# Altium schematic symbol library Dart_Controller_Schlib.SchLib: 218 symbols (part 2 of 2)
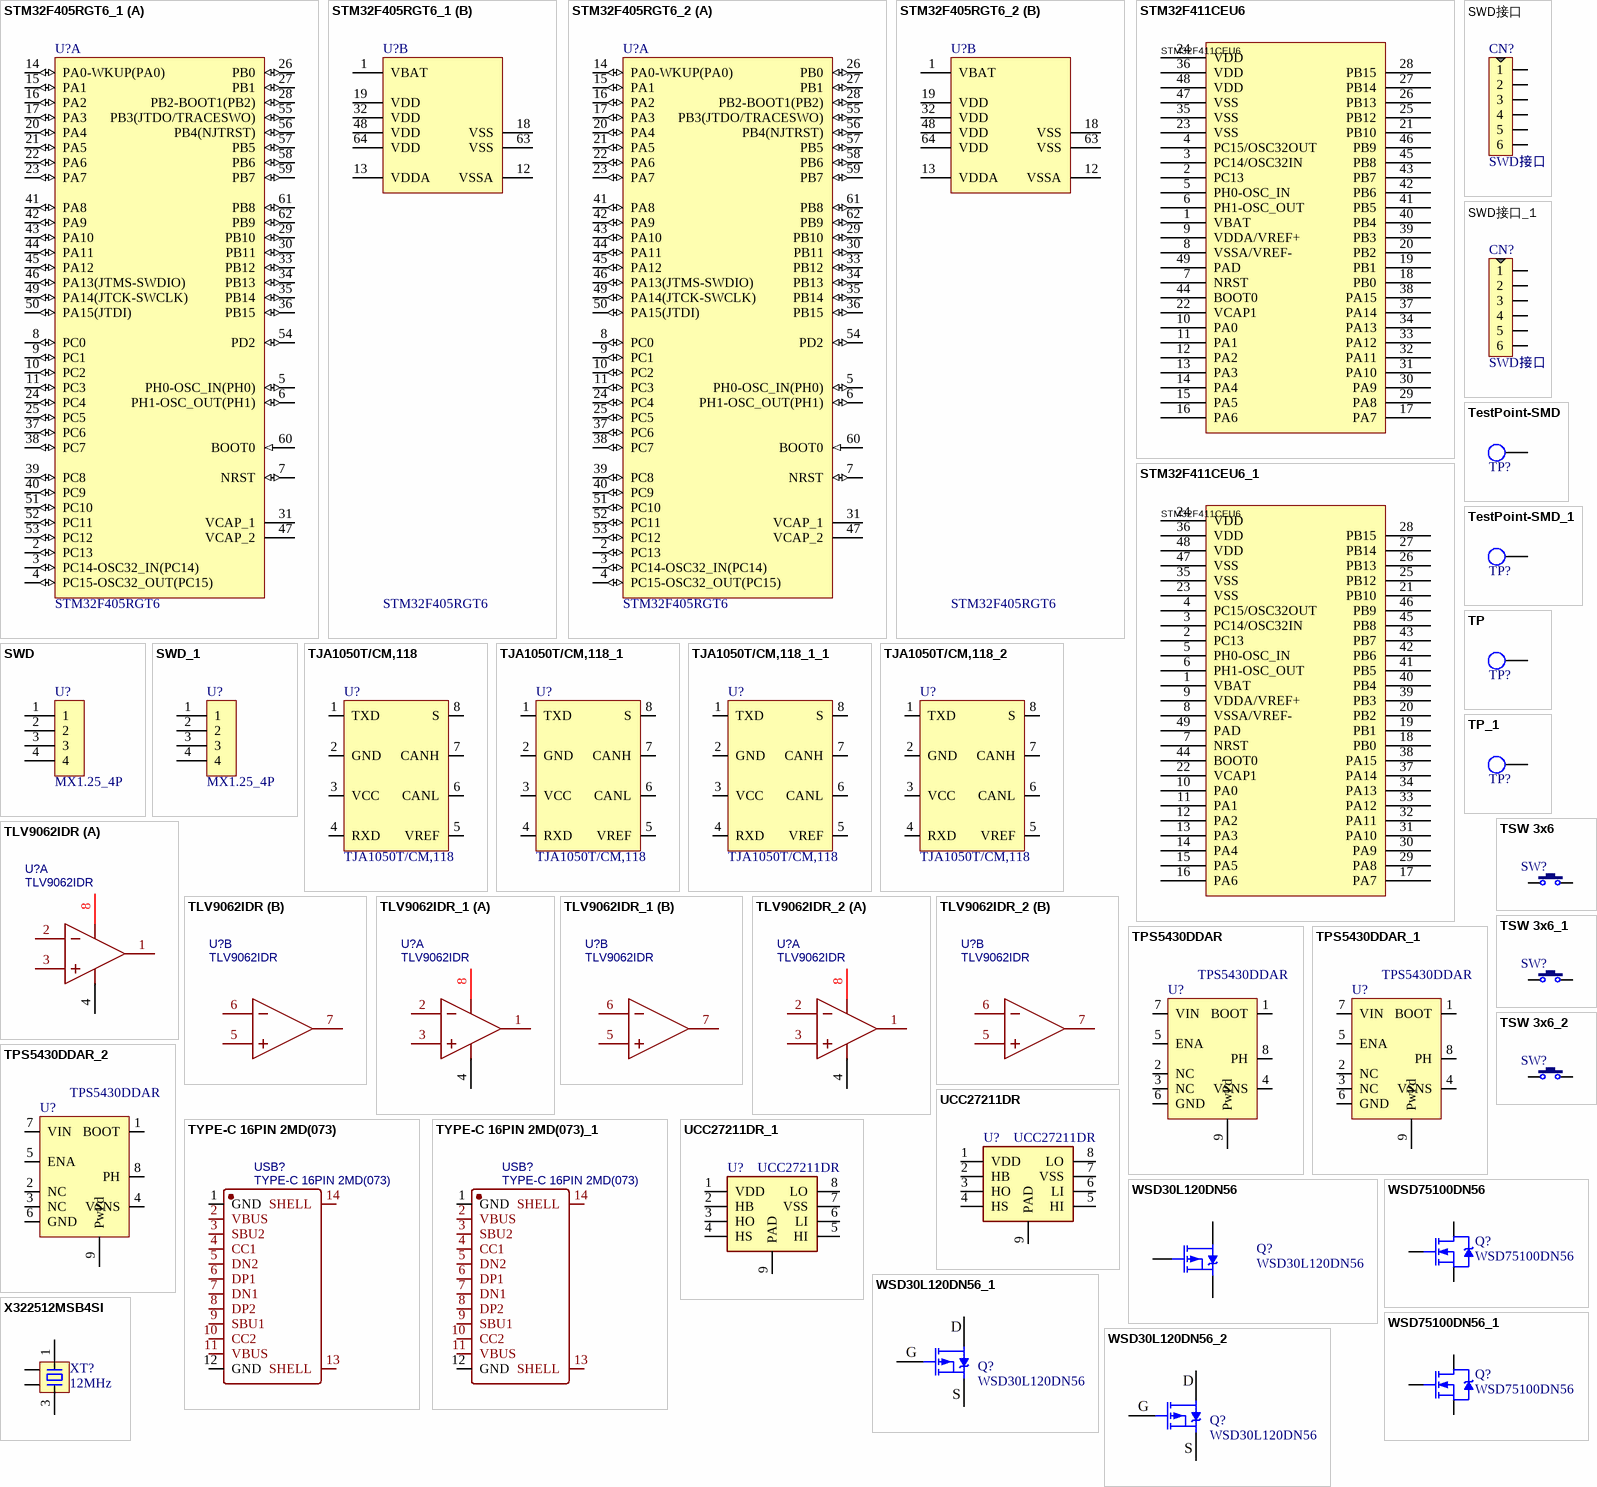
[diagram p6: symbols STM32F405RGT6_1 to X322512MSB4SI]

## STM32F405RGT6_2
designator U?, comment STM32F405RGT6
ARM Cortex-M4 32-bit MCU+FPU, 210 DMIPS, 1024 kB Flash, 192 kB Internal RAM, 51 I/Os, 64-pin LQFP, -40 to 85 degC, Tray; Manufacturer: STMicroelectronics; D/A Converter: 2x12-bit; FLASH Size (Prog) (kB): 1024; I/Os (High Current): 51; Internal RAM Size (kB): 192; Operating Frequency(F) (Processor speed) (MHz): 168; Supply Voltage(Vcc) max (V): 3.6; Supply Voltage(Vcc) min (V): 1.8; DatasheetVersion: Rev. 4; PackageVersion: Rev. 4, 06/2013; PackageReference: LQFP64; PackageDescription: 64-Pin Low Profile Quad Flat Package, 10 x 10 mm Body, 0.5 mm Pitch; Supplier 1: Digi-Key; Supplier Part Number 1: 497-11767-ND; Supplier 2: Farnell; Supplier Part Number 2: 2064363; Supplier 3: Newark; Supplier Part Number 3: 73T2329; Supplier 4: Mouser; Supplier Part Number 4: 511-STM32F405RGT6; Core: ARM Cortex-M4; Packing: Tray; Mounting Technology: Surface Mount; PartNumber: STM32F405RGT6; ComponentLink1Description: Manufacturer URL; ComponentLink1URL: http://www.st.com/web/en/home.html; ComponentLink2Description: Datasheet; ComponentLink2URL: http://www.st.com/st-web-ui/static/active/en/resource/technical/document/datasheet/DM00037051.pdf; ComponentLink3Description: Package Specification; ComponentLink3URL: http://www.st.com/st-web-ui/static/active/en/resource/technical/document/datasheet/DM00037051.pdf
footprint LQFP64 10x10_N (64脚，体宽10x10mm，脚距0.5mm)
part A pins: 2 PC13 (io) "PC13/EVENTOUT/RTC_OUT,RTC_TAMP1,RTC_TS", 3 PC14-OSC32_IN(PC14) (io) "PC14-OSC32_IN(PC14)/EVENTOUT/OSC32_IN", 4 PC15-OSC32_OUT(PC15) (io) "PC15-OSC32_OUT(PC15)/EVENTOUT/OSC32_OUT", 5 PH0-OSC_IN(PH0) (io) "PH0-OSC_IN(PH0)/EVENTOUT/OSC_IN", 6 PH1-OSC_OUT(PH1) (io) "PH1-OSC_OUT(PH1)/EVENTOUT/OSC_OUT", 7 NRST (io), 8 PC0 (io) "PC0/OTG_HS_ULPI_STP/EVENTOUT/ADC123_IN10", 9 PC1 (io) "PC1/ETH_MDC/EVENTOUT/ADC123_IN11", 10 PC2 (io) "PC2/SPI2_MISO/OTG_HS_ULPI_DIR/ETH_MII_TXD2/I2S2ext_SD/EVENTOUT/ADC123_IN12", 11 PC3 (io) "PC3/SPI2_MOSI/I2S2_SD/OTG_HS_ULPI_NXT/ETH_MII_TX_CLK/EVENTOUT/ADC123_IN13", 14 PA0-WKUP(PA0) (io) "PA0-WKUP(PA0)/USART2_CTS/UART4_TX/ETH_MII_CRS/TIM2_CH1_ETR/TIM5_CH1/TIM8_ETR/EVENTOUT/ADC123_IN0/WKUP", 15 PA1 (io) "PA1/USART2_RTS/UART4_RX/ETH_RMII_REF_CLK/ETH_MII_RX_CLK/TIM5_CH2/TIM2_CH2/EVENTOUT/ADC123_IN1", 16 PA2 (io) "PA2/USART2_TX/TIM5_CH3/TIM9_CH1/TIM2_CH3/ETH_MDIO/EVENTOUT/ADC123_IN2", 17 PA3 (io) "PA3/USART2_RX/TIM5_CH4/TIM9_CH2/TIM2_CH4/OTG_HS_ULPI_D0/ETH_MII_COL/EVENTOUT/ADC123_IN3", 20 PA4 (io) "PA4/SPI1_NSS/SPI3_NSS/USART2_CK/DCMI_HSYNC/OTG_HS_SOF/I2S3_WS/EVENTOUT/ADC12_IN4/DAC_OUT1", 21 PA5 (io) "PA5/SPI1_SCK/OTG_HS_ULPI_CK/TIM2_CH1_ETR/TIM8_CH1N/EVENTOUT/ADC12_IN5/DAC_OUT2", 22 PA6 (io) "PA6/SPI1_MISO/TIM8_BKIN/TIM13_CH1/DCMI_PIXCLK/TIM3_CH1/TIM1_BKIN/EVENTOUT/ADC12_IN6", 23 PA7 (io) "PA7/SPI1_MOSI/TIM8_CH1N/TIM14_CH1/TIM3_CH2/ETH_MII_RX_DV/TIM1_CH1N/ETH_RMII_CRS_DV/EVENTOUT/ADC12_IN7", 24 PC4 (io) "PC4/ETH_RMII_RX_D0/ETH_MII_RX_D0/EVENTOUT/ADC12_IN14", 25 PC5 (io) "PC5/ETH_RMII_RX_D1/ETH_MII_RX_D1/EVENTOUT/ADC12_IN15", 26 PB0 (io) "PB0/TIM3_CH3/TIM8_CH2N/OTG_HS_ULPI_D1/ETH_MII_RXD2/TIM1_CH2N/EVENTOUT/ADC12_IN8", 27 PB1 (io) "PB1/TIM3_CH4/TIM8_CH3N/OTG_HS_ULPI_D2/ETH_MII_RXD3/TIM1_CH3N/EVENTOUT/ADC12_IN9", 28 PB2-BOOT1(PB2) (io) "PB2-BOOT1(PB2)/EVENTOUT", 29 PB10 (io) "PB10/SPI2_SCK/I2S2_CK/I2C2_SCL/USART3_TX/OTG_HS_ULPI_D3/ETH_MII_RX_ER/TIM2_CH3/EVENTOUT", 30 PB11 (io) "PB11/I2C2_SDA/USART3_RX/OTG_HS_ULPI_D4/ETH_RMII_TX_EN/ETH_MII_TX_EN/TIM2_CH4/EVENTOUT", 31 VCAP_1 (power), 33 PB12 (io) "PB12/SPI2_NSS/I2S2_WS/I2C2_SMBA/USART3_CK/TIM1_BKIN/CAN2_RX/OTG_HS_ULPI_D5/ETH_RMII_TXD0/ETH_MII_TXD0/OTG_HS_ID/EVENTOUT", 34 PB13 (io) "PB13/SPI2_SCK/I2S2_CK/USART3_CTS/TIM1_CH1N/CAN2_TX/OTG_HS_ULPI_D6/ETH_RMII_TXD1/ETH_MII_TXD1/EVENTOUT/OTG_HS_VBUS", 35 PB14 (io) "PB14/SPI2_MISO/TIM1_CH2N/TIM12_CH1/OTG_HS_DM/USART3_RTS/TIM8_CH2N/I2S2ext_SD/EVENTOUT", 36 PB15 (io) "PB15/SPI2_MOSI/I2S2_SD/TIM1_CH3N/TIM8_CH3N/TIM12_CH2/OTG_HS_DP/EVENTOUT/RTC_REFIN", 37 PC6 (io) "PC6/I2S2_MCK/TIM8_CH1/SDIO_D6/USART6_TX/DCMI_D0/TIM3_CH1/EVENTOUT", 38 PC7 (io) "PC7/I2S3_MCK/TIM8_CH2/SDIO_D7/USART6_RX/DCMI_D1/TIM3_CH2/EVENTOUT", 39 PC8 (io) "PC8/TIM8_CH3/SDIO_D0/TIM3_CH3/USART6_CK/DCMI_D2/EVENTOUT", 40 PC9 (io) "PC9/I2S_CKIN/MCO2/TIM8_CH4/SDIO_D1/I2C3_SDA/DCMI_D3/TIM3_CH4/EVENTOUT", 41 PA8 (io) "PA8/MCO1/USART1_CK/TIM1_CH1/I2C3_SCL/OTG_FS_SOF/EVENTOUT", 42 PA9 (io) "PA9/USART1_TX/TIM1_CH2/I2C3_SMBA/DCMI_D0/EVENTOUT/OTG_FS_VBUS", 43 PA10 (io) "PA10/USART1_RX/TIM1_CH3/OTG_FS_ID/DCMI_D1/EVENTOUT", 44 PA11 (io) "PA11/USART1_CTS/CAN1_RX/TIM1_CH4/OTG_FS_DM/EVENTOUT", 45 PA12 (io) "PA12/USART1_RTS/CAN1_TX/TIM1_ETR/OTG_FS_DP/EVENTOUT", 46 PA13(JTMS-SWDIO) (io) "PA13(JTMS-SWDIO)/JTMS-SWDIO/EVENTOUT", 47 VCAP_2 (power), 49 PA14(JTCK-SWCLK) (io) "PA14(JTCK-SWCLK)/JTCK-SWCLK/EVENTOUT", 50 PA15(JTDI) (io) "PA15(JTDI)/JTDI/SPI3_NSS/I2S3_WS/TIM2_CH1_ETR/SPI1_NSS/EVENTOUT", 51 PC10 (io) "PC10/SPI3_SCK/I2S3_CK/UART4_TX/SDIO_D2/DCMI_D8/USART3_TX/EVENTOUT", 52 PC11 (io) "PC11/UART4_RX/SPI3_MISO/SDIO_D3/DCMI_D4/USART3_RX/I2S3ext_SD/EVENTOUT", 53 PC12 (io) "PC12/UART5_TX/SDIO_CK/DCMI_D9/SPI3_MOSI/I2S3_SD/USART3_CK/EVENTOUT", 54 PD2 (io) "PD2/TIM3_ETR/UART5_RX/SDIO_CMD/DCMI_D11/EVENTOUT", 55 PB3(JTDO/TRACESWO) (io) "PB3(JTDO/TRACESWO)/JTDO/TRACESWO/SPI3_SCK/I2S3_CK/TIM2_CH2/SPI1_SCK/EVENTOUT", 56 PB4(NJTRST) (io) "PB4(NJTRST)/NJTRST/SPI3_MISO/TIM3_CH1/SPI1_MISO/I2S3ext_SD/EVENTOUT", 57 PB5 (io) "PB5/I2C1_SMBA/CAN2_RX/OTG_HS_ULPI_D7/ETH_PPS_OUT/TIM3_CH2/SPI1_MOSI/SPI3_MOSI/DCMI_D10/I2S3_SD/EVENTOUT", 58 PB6 (io) "PB6/I2C1_SCL/TIM4_CH1/CAN2_TX/DCMI_D5/USART1_TX/EVENTOUT", 59 PB7 (io) "PB7/I2C1_SDA/FSMC_NL/DCMI_VSYNC/USART1_RX/TIM4_CH2/EVENTOUT", 60 BOOT0 (in) "BOOT0/VPP", 61 PB8 (io) "PB8/TIM4_CH3/SDIO_D4/TIM10_CH1/DCMI_D6/ETH_MII_TXD3/I2C1_SCL/CAN1_RX/EVENTOUT", 62 PB9 (io) "PB9/SPI2_NSS/I2S2_WS/TIM4_CH4/TIM11_CH1/SDIO_D5/DCMI_D7/I2C1_SDA/CAN1_TX/EVENTOUT"
part B pins: 1 VBAT (power), 12 VSSA (power), 13 VDDA (power), 18 VSS (power), 19 VDD (power), 32 VDD (power), 48 VDD (power), 63 VSS (power), 64 VDD (power)

## STM32F411CEU6
designator STM32F411CEU6  (value not drawn)
Manufacturer: ST(意法半导体); Add into BOM: yes; CPU Core: ARM-M4; Program Storage Size: 512KB; RAM Size: 128KB; GPIO Ports Number: 36; Operating Voltage Range: 1.7V~3.6V; CPU Maximum Speed: 100MHz; Program Memory Type: FLASH; ADC (Bit): 12bit; Universal Serial Bus: 有; Peripheral/Function: DMA；PWM; Symbol: STM32F411CEU6; Device: STM32F411CEU6; LCSC Part Name: 带DSP和FPU的高性能基本型系列ARM Cortex-M4 MCU，具有512 KB Flash、100 MHz CPU和ART加速器; Supplier Part: C60420; Manufacturer Part: STM32F411CEU6; Supplier Footprint: UFQFPN-48(7x7); JLCPCB Part Class: Extended Part; Datasheet: https://atta.szlcsc.com/upload/public/pdf/source/20151026/1457707507170.pdf; Supplier: LCSC; Convert to PCB: yes; Operating Temperature Range: -40℃~+85℃; DAC (Bit): -; PWM (Bit): -; Internal Comparator: -; communication protocol: -; Watchdog: 有; Real-Time Clock: -; Infrared Data Association: 有; Low-Voltage Detect: 有; CCP Capture/Compare: -; Secure Digital Input and Output: 有; Direct Memory Access: 有; Internal Oscillator: 有
footprint STM32F411CEU61
pins: 1 VBAT, 2 PC13, 3 PC14/OSC32IN, 4 PC15/OSC32OUT, 5 PH0-OSC_IN, 6 PH1-OSC_OUT, 7 NRST, 8 VSSA/VREF-, 9 VDDA/VREF+, 10 PA0, 11 PA1, 12 PA2, 13 PA3, 14 PA4, 15 PA5, 16 PA6, 17 PA7, 18 PB0, 19 PB1, 20 PB2, 21 PB10, 22 VCAP1, 23 VSS, 24 VDD, 25 PB12, 26 PB13, 27 PB14, 28 PB15, 29 PA8, 30 PA9, 31 PA10, 32 PA11, 33 PA12, 34 PA13, 35 VSS, 36 VDD, 37 PA14, 38 PA15, 39 PB3, 40 PB4, 41 PB5, 42 PB6, 43 PB7, 44 BOOT0, 45 PB8, 46 PB9, 47 VSS, 48 VDD, 49 PAD

## STM32F411CEU6_1
designator STM32F411CEU6, comment STM32F411CEU6  (value not drawn)
Manufacturer: ST(意法半导体); Add into BOM: yes; CPU Core: ARM-M4; Program Storage Size: 512KB; RAM Size: 128KB; GPIO Ports Number: 36; Operating Voltage Range: 1.7V~3.6V; CPU Maximum Speed: 100MHz; Program Memory Type: FLASH; ADC (Bit): 12bit; Universal Serial Bus: 有; Peripheral/Function: DMA；PWM; Symbol: STM32F411CEU6; Device: STM32F411CEU6; LCSC Part Name: 带DSP和FPU的高性能基本型系列ARM Cortex-M4 MCU，具有512 KB Flash、100 MHz CPU和ART加速器; Supplier Part: C60420; Manufacturer Part: STM32F411CEU6; Supplier Footprint: UFQFPN-48(7x7); JLCPCB Part Class: Extended Part; Datasheet: https://atta.szlcsc.com/upload/public/pdf/source/20151026/1457707507170.pdf; Supplier: LCSC; Convert to PCB: yes; Operating Temperature Range: -40℃~+85℃; DAC (Bit): -; PWM (Bit): -; Internal Comparator: -; communication protocol: -; Watchdog: 有; Real-Time Clock: -; Infrared Data Association: 有; Low-Voltage Detect: 有; CCP Capture/Compare: -; Secure Digital Input and Output: 有; Direct Memory Access: 有; Internal Oscillator: 有
footprint STM32F411CEU61
pins: 1 VBAT, 2 PC13, 3 PC14/OSC32IN, 4 PC15/OSC32OUT, 5 PH0-OSC_IN, 6 PH1-OSC_OUT, 7 NRST, 8 VSSA/VREF-, 9 VDDA/VREF+, 10 PA0, 11 PA1, 12 PA2, 13 PA3, 14 PA4, 15 PA5, 16 PA6, 17 PA7, 18 PB0, 19 PB1, 20 PB2, 21 PB10, 22 VCAP1, 23 VSS, 24 VDD, 25 PB12, 26 PB13, 27 PB14, 28 PB15, 29 PA8, 30 PA9, 31 PA10, 32 PA11, 33 PA12, 34 PA13, 35 VSS, 36 VDD, 37 PA14, 38 PA15, 39 PB3, 40 PB4, 41 PB5, 42 PB6, 43 PB7, 44 BOOT0, 45 PB8, 46 PB9, 47 VSS, 48 VDD, 49 PAD

## SWD
designator U?, comment MX1.25_4P
立式
footprint MX 1.25-LI-4P (长：6.75mm，宽：3.2mm，高：4.2mm        淘宝ID:黄晶宝石)
pins: 1, 2, 3, 4

## SWD_1
designator U?, comment MX1.25_4P
立式
footprint MX 1.25-LI-4P (长：6.75mm，宽：3.2mm，高：4.2mm        淘宝ID:黄晶宝石)
pins: 1, 2, 3, 4

## SWD接口
designator CN?
4P
footprint MX 1.25-WS-4P (长：10.15mm，宽：4.2mm，高：3.4mm)
pins: 1, 2, 3, 4, 5, 6

## SWD接口_1
designator CN?, comment SWD接口
4P
footprint MX 1.25-WS-4P (长：10.15mm，宽：4.2mm，高：3.4mm)
pins: 1, 2, 3, 4, 5, 6

## TestPoint-SMD
designator TP?, comment Testpoint-SMD  (value not drawn)
测试点
footprint TestPoint
footprint HDR2.54-LI-1P (封装库来自淘宝卖家 ID：黄晶宝石)
pins: 1 4

## TestPoint-SMD_1
designator TP?, comment Testpoint-SMD  (value not drawn)
测试点
footprint TestPoint
footprint HDR2.54-LI-1P (封装库来自淘宝卖家 ID：黄晶宝石)
pins: 1 4

## TJA1050T/CM,118
designator U?
CAN芯片
footprint SOP8_N (5*6*1.8mm（长宽高）封装库来自淘宝卖家 ID：黄晶宝石)
pins: 1 TXD, 2 GND, 3 VCC, 4 RXD, 5 VREF, 6 CANL, 7 CANH, 8 S

## TJA1050T/CM,118_1
designator U?, comment TJA1050T/CM,118
CAN芯片
footprint SOP8_N (5*6*1.8mm（长宽高）封装库来自淘宝卖家 ID：黄晶宝石)
pins: 1 TXD, 2 GND, 3 VCC, 4 RXD, 5 VREF, 6 CANL, 7 CANH, 8 S

## TJA1050T/CM,118_1_1
designator U?, comment TJA1050T/CM,118
CAN芯片
footprint SOP8_N (5*6*1.8mm（长宽高）封装库来自淘宝卖家 ID：黄晶宝石)
pins: 1 TXD, 2 GND, 3 VCC, 4 RXD, 5 VREF, 6 CANL, 7 CANH, 8 S

## TJA1050T/CM,118_2
designator U?, comment TJA1050T/CM,118
CAN芯片
footprint SOP8_N (5*6*1.8mm（长宽高）封装库来自淘宝卖家 ID：黄晶宝石)
pins: 1 TXD, 2 GND, 3 VCC, 4 RXD, 5 VREF, 6 CANL, 7 CANH, 8 S

## TLV9062IDR
designator U?
运算放大器; Manufacturer: TI(德州仪器); Manufacturer Part: OPA365AIDBVR; Contributor: LCSC; Supplier: LCSC; Supplier Part: C96626; JLCPCB Part Class: Extended Part; spicePre: U; spiceSymbolName: OPA365AIDBVR
footprint SOP8_N
part A pins: 1 OUT, 2 IN-, 3 IN+, 4 VS-, 8 VS+
part B pins: 5 IN+, 6 IN-, 7 OUT

## TLV9062IDR_1
designator U?, comment TLV9062IDR
运算放大器; Manufacturer: TI(德州仪器); Manufacturer Part: OPA365AIDBVR; Contributor: LCSC; Supplier: LCSC; Supplier Part: C96626; JLCPCB Part Class: Extended Part; spicePre: U; spiceSymbolName: OPA365AIDBVR
footprint SOP8_N
part A pins: 1 OUT, 2 IN-, 3 IN+, 4 VS-, 8 VS+
part B pins: 5 IN+, 6 IN-, 7 OUT

## TLV9062IDR_2
designator U?, comment TLV9062IDR
运算放大器; Manufacturer: TI(德州仪器); Manufacturer Part: OPA365AIDBVR; Contributor: LCSC; Supplier: LCSC; Supplier Part: C96626; JLCPCB Part Class: Extended Part; spicePre: U; spiceSymbolName: OPA365AIDBVR
footprint SOP8_N
part A pins: 1 OUT, 2 IN-, 3 IN+, 4 VS-, 8 VS+
part B pins: 5 IN+, 6 IN-, 7 OUT

## TP
designator TP?  (value not drawn)
测试点
footprint HDR2.54-LI-1P (封装库来自淘宝卖家 ID：黄晶宝石)
pins: 1 4

## TP_1
designator TP?, comment TP  (value not drawn)
测试点
footprint HDR2.54-LI-1P (封装库来自淘宝卖家 ID：黄晶宝石)
pins: 1 4

## TPS5430DDAR
designator U?
降压芯片
footprint ESOP8
pins: 1 BOOT, 2 NC, 3 NC, 4 VSNS, 5 ENA, 6 GND, 7 VIN, 8 PH, 9 PwPd "1"

## TPS5430DDAR_1
designator U?, comment TPS5430DDAR
降压芯片
footprint ESOP8
pins: 1 BOOT, 2 NC, 3 NC, 4 VSNS, 5 ENA, 6 GND, 7 VIN, 8 PH, 9 PwPd "1"

## TPS5430DDAR_2
designator U?, comment TPS5430DDAR
降压芯片
footprint ESOP8
pins: 1 BOOT, 2 NC, 3 NC, 4 VSNS, 5 ENA, 6 GND, 7 VIN, 8 PH, 9 PwPd "1"

## TSW 3x6
designator SW?, comment 3x6x5  (value not drawn)
3x6轻触开关; 版权归属: 封装库来自淘宝 ID：黄晶宝石; BOM名称: 3x6轻触开关; 学习资源: www.ooocke.com
footprint TSW SMD-3*6*2.5 (3*6*2.5mm)
pins: 1, 2

## TSW 3x6_1
designator SW?, comment 3x6x5  (value not drawn)
3x6轻触开关; 版权归属: 封装库来自淘宝 ID：黄晶宝石; BOM名称: 3x6轻触开关; 学习资源: www.ooocke.com
footprint TSW SMD-3*6*2.5 (3*6*2.5mm)
pins: 1, 2

## TSW 3x6_2
designator SW?, comment 3x6x5  (value not drawn)
3x6轻触开关; 版权归属: 封装库来自淘宝 ID：黄晶宝石; BOM名称: 3x6轻触开关; 学习资源: www.ooocke.com
footprint TSW SMD-3*6*2.5 (3*6*2.5mm)
pins: 1, 2

## TYPE-C 16PIN 2MD(073)
designator USB?
type-C; Manufacturer: SHOU HAN(首韩); Contributor: LCSC; Supplier: LCSC; Supplier Part: C2765186; Manufacturer Part: TYPE-C 16PIN 2MD(073); JLCPCB Part Class: Extended Part; spicePre: U; spiceSymbolName: TYPE-C 16PIN 2MD(073)
footprint USB-C-SMD_TYPE-C-6PIN-2MD-073 - duplicate
pins: 1 GND, 2 VBUS, 3 SBU2, 4 CC1, 5 DN2, 6 DP1, 7 DN1, 8 DP2, 9 SBU1, 10 CC2, 11 VBUS, 12 GND, 13 SHELL, 14 SHELL

## TYPE-C 16PIN 2MD(073)_1
designator USB?, comment TYPE-C 16PIN 2MD(073)
type-C; Manufacturer: SHOU HAN(首韩); Contributor: LCSC; Supplier: LCSC; Supplier Part: C2765186; Manufacturer Part: TYPE-C 16PIN 2MD(073); JLCPCB Part Class: Extended Part; spicePre: U; spiceSymbolName: TYPE-C 16PIN 2MD(073)
footprint USB-C-SMD_TYPE-C-6PIN-2MD-073 - duplicate
pins: 1 GND, 2 VBUS, 3 SBU2, 4 CC1, 5 DN2, 6 DP1, 7 DN1, 8 DP2, 9 SBU1, 10 CC2, 11 VBUS, 12 GND, 13 SHELL, 14 SHELL

## UCC27211DR
designator U?
栅极驱动器
footprint ESOP8
pins: 1 VDD, 2 HB, 3 HO, 4 HS, 5 HI, 6 LI, 7 VSS, 8 LO, 9 PAD

## UCC27211DR_1
designator U?, comment UCC27211DR
栅极驱动器
footprint ESOP8
pins: 1 VDD, 2 HB, 3 HO, 4 HS, 5 HI, 6 LI, 7 VSS, 8 LO, 9 PAD

## WSD30L120DN56
designator Q?
P沟道场效应管
footprint POWERVDFN-8_L6.0-W5.0-P1.27-BL
pins: D, G, S

## WSD30L120DN56_1
designator Q?, comment WSD30L120DN56
P沟道场效应管
footprint WSD30L120DN56 (增强PMOS); pin to pad 1>4 2>1+2+3 3>5+6+7+8+9
pins: 1 G, 2 S, 3 D

## WSD30L120DN56_2
designator Q?, comment WSD30L120DN56
P沟道场效应管
footprint WSD30L120DN56 (增强PMOS); pin to pad 1>4 2>1+2+3 3>5+6+7+8+9
pins: 1 G, 2 S, 3 D

## WSD75100DN56
designator Q?
NMOS; Note: Pin 2 is electrically connected to pin 4.; Published: 8-Jun-2000; LatestRevisionDate: 17-Jul-2002; LatestRevisionNote: Re-released for DXP Platform.; DatasheetVersion: PD-9.814; PackageVersion: Feb-1997; PackageReference: TO-220AB; Publisher: Altium Limited; PackageDescription: TO, Thru-Hole, Vertical, Heatsink Mounted; 3 In-Line Leads; Pitch 2.54 mm; ComponentLink1Description: Manufacturer Link; ComponentLink1URL: http://www.irf.com/
footprint WSD75100DN56 (NMOS); pin to pad 1>4 2>5+6+7+8+9 3>1+2+3
pins: 1 G, 2 S, 3 D

## WSD75100DN56_1
designator Q?, comment WSD75100DN56
NMOS; Note: Pin 2 is electrically connected to pin 4.; Published: 8-Jun-2000; LatestRevisionDate: 17-Jul-2002; LatestRevisionNote: Re-released for DXP Platform.; DatasheetVersion: PD-9.814; PackageVersion: Feb-1997; PackageReference: TO-220AB; Publisher: Altium Limited; PackageDescription: TO, Thru-Hole, Vertical, Heatsink Mounted; 3 In-Line Leads; Pitch 2.54 mm; ComponentLink1Description: Manufacturer Link; ComponentLink1URL: http://www.irf.com/
footprint WSD75100DN56 (NMOS); pin to pad 1>4 2>5+6+7+8+9 3>1+2+3
pins: 1 G, 2 S, 3 D

## X322512MSB4SI
designator XT?, comment 12MHz
无源晶振/外接20pf负载电容
footprint XTAL_3225_4P (3.2*2.5*0.7mm(长宽高))
pins: 1, 2, 3, 4

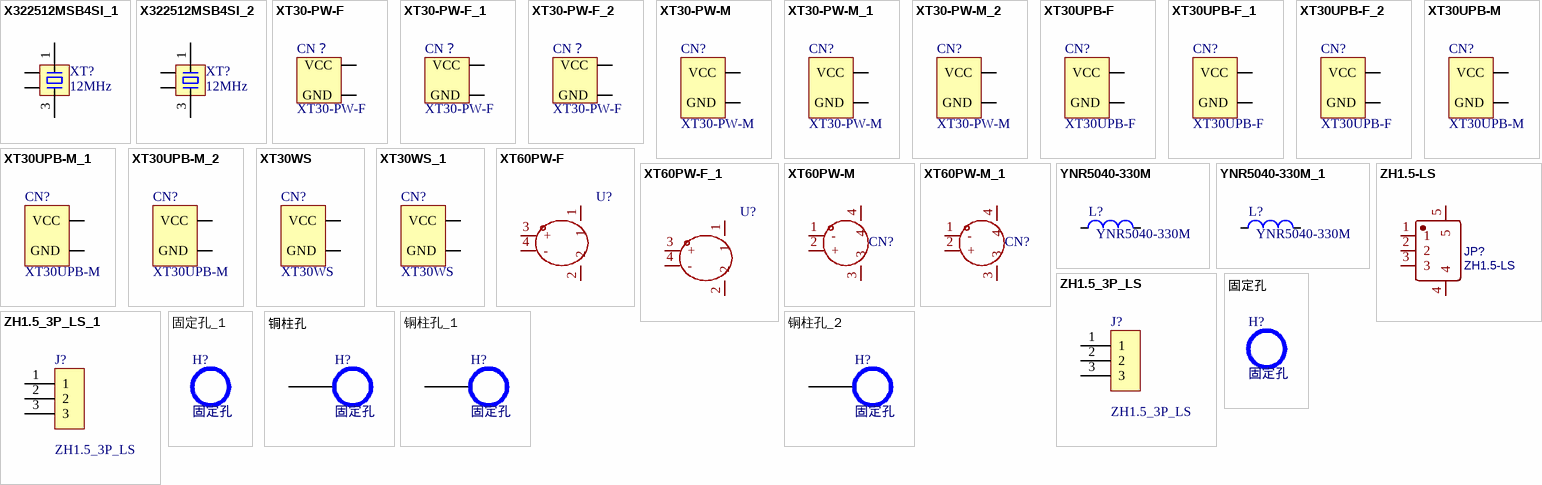
[diagram p5: symbols X322512MSB4SI_1 to 铜柱孔_2]

## X322512MSB4SI_1
designator XT?, comment 12MHz
无源晶振/外接20pf负载电容
footprint XTAL_3225_4P (3.2*2.5*0.7mm(长宽高))
pins: 1, 2, 3, 4

## X322512MSB4SI_2
designator XT?, comment 12MHz
无源晶振/外接20pf负载电容
footprint XTAL_3225_4P (3.2*2.5*0.7mm(长宽高))
pins: 1, 2, 3, 4

## XT30-PW-F
designator CN？
母头（卧式）
footprint XT30PW-F
pins: 1 VCC, 2 GND

## XT30-PW-F_1
designator CN？, comment XT30-PW-F
母头（卧式）
footprint XT30PW-F
pins: 1 VCC, 2 GND

## XT30-PW-F_2
designator CN？, comment XT30-PW-F
母头（卧式）
footprint XT30PW-F
pins: 1 VCC, 2 GND

## XT30-PW-M
designator CN?
公头(立式）
footprint XT30PW-M
pins: 1 VCC, 2 GND

## XT30-PW-M_1
designator CN?, comment XT30-PW-M
公头(立式）
footprint XT30PW-M
pins: 1 VCC, 2 GND

## XT30-PW-M_2
designator CN?, comment XT30-PW-M
公头(立式）
footprint XT30PW-M
pins: 1 VCC, 2 GND

## XT30UPB-F
designator CN?
母头(立式)
footprint XT30UPB-F
pins: 1 VCC, 2 GND

## XT30UPB-F_1
designator CN?, comment XT30UPB-F
母头(立式)
footprint XT30UPB-F
pins: 1 VCC, 2 GND

## XT30UPB-F_2
designator CN?, comment XT30UPB-F
母头(立式)
footprint XT30UPB-F
pins: 1 VCC, 2 GND

## XT30UPB-M
designator CN?
公头(立式)
footprint XT30UPB-M
pins: 1 VCC, 2 GND

## XT30UPB-M_1
designator CN?, comment XT30UPB-M
公头(立式)
footprint XT30UPB-M
pins: 1 VCC, 2 GND

## XT30UPB-M_2
designator CN?, comment XT30UPB-M
公头(立式)
footprint XT30UPB-M
pins: 1 VCC, 2 GND

## XT30WS
designator CN?
公头(立式爆改卧贴)
footprint XT30_WS
pins: 1 GND, 2 VCC

## XT30WS_1
designator CN?, comment XT30WS
公头(立式爆改卧贴)
footprint XT30_WS
pins: 1 GND, 2 VCC

## XT60PW-F
designator U?  (value not drawn)
Manufacturer: AMASS(艾迈斯); Symbol: XT60PW-F_C428722; Add into BOM: yes; InterfaceType: 母头; Device: XT60PW-F; LCSC Part Name: AMASS(艾迈斯)插头连接器锂电池组充电接口 航模电调卧式焊板 母头 XT60PW-F; Supplier Part: C428722; Manufacturer Part: XT60PW-F; Supplier Footprint: -; JLCPCB Part Class: 扩展库; Datasheet: https://atta.szlcsc.com/upload/public/pdf/source/20190916/C428722_DFF78979486FCB0B58C1FC563067EC88.pdf; Supplier: LCSC; Convert to PCB: yes; Power: -; Output: -; Input: -; Size: -; Interface: -; Type: 卧式插头; Colour: 黄色; MaximumCurrent: -; RatedVoltage: -; Type1: -; NumberOfUSBHoles: -; MetalMaterial: -; InsulationMaterial: -; RatedCurrent: -; RecommendedWireGauge: -; FlameRetardantGrade: -; contact resistance: -; Belt length: -; specifications: -
footprint XT60PW-F
pins: 1, 2, 3 +, 4 -

## XT60PW-F_1
designator U?, comment XT60PW-F  (value not drawn)
Manufacturer: AMASS(艾迈斯); Symbol: XT60PW-F_C428722; Add into BOM: yes; InterfaceType: 母头; Device: XT60PW-F; LCSC Part Name: AMASS(艾迈斯)插头连接器锂电池组充电接口 航模电调卧式焊板 母头 XT60PW-F; Supplier Part: C428722; Manufacturer Part: XT60PW-F; Supplier Footprint: -; JLCPCB Part Class: 扩展库; Datasheet: https://atta.szlcsc.com/upload/public/pdf/source/20190916/C428722_DFF78979486FCB0B58C1FC563067EC88.pdf; Supplier: LCSC; Convert to PCB: yes; Power: -; Output: -; Input: -; Size: -; Interface: -; Type: 卧式插头; Colour: 黄色; MaximumCurrent: -; RatedVoltage: -; Type1: -; NumberOfUSBHoles: -; MetalMaterial: -; InsulationMaterial: -; RatedCurrent: -; RecommendedWireGauge: -; FlameRetardantGrade: -; contact resistance: -; Belt length: -; specifications: -
footprint XT60PW-F
pins: 1, 2, 3 +, 4 -

## XT60PW-M
designator CN?  (value not drawn)
Manufacturer: AMASS(艾迈斯); Add into BOM: yes; Brand: 艾迈斯; InterfaceType: 公头; Symbol: XT60PW-M; Device: XT60PW-M; LCSC Part Name: AMASS(艾迈斯)航模插头xt60连接器150公母对接pw锂电池公头 板插卧式XT60PW-M; Supplier Part: C98732; Manufacturer Part: XT60PW-M; Supplier Footprint: -; JLCPCB Part Class: 扩展库; Datasheet: https://atta.szlcsc.com/upload/public/pdf/source/20240118/44A3DCFF53BE25DC65378AFFB21277A4.pdf; Supplier: LCSC; Convert to PCB: yes; Model: XT60PW-M; Power: -; Output: -; Input: -; Size: -; Interface: -; Type: 卧式插头; Colour: 黄色; MaximumCurrent: -; RatedVoltage: -; Type1: -; NumberOfUSBHoles: -; MetalMaterial: -; InsulationMaterial: -; RatedCurrent: -; RecommendedWireGauge: -; FlameRetardantGrade: -; contact resistance: -; Belt length: -; specifications: -
footprint XT60PW-M
pins: 1 -, 2 +, 3, 4

## XT60PW-M_1
designator CN?, comment XT60PW-M  (value not drawn)
Manufacturer: AMASS(艾迈斯); Add into BOM: yes; Brand: 艾迈斯; InterfaceType: 公头; Symbol: XT60PW-M; Device: XT60PW-M; LCSC Part Name: AMASS(艾迈斯)航模插头xt60连接器150公母对接pw锂电池公头 板插卧式XT60PW-M; Supplier Part: C98732; Manufacturer Part: XT60PW-M; Supplier Footprint: -; JLCPCB Part Class: 扩展库; Datasheet: https://atta.szlcsc.com/upload/public/pdf/source/20240118/44A3DCFF53BE25DC65378AFFB21277A4.pdf; Supplier: LCSC; Convert to PCB: yes; Model: XT60PW-M; Power: -; Output: -; Input: -; Size: -; Interface: -; Type: 卧式插头; Colour: 黄色; MaximumCurrent: -; RatedVoltage: -; Type1: -; NumberOfUSBHoles: -; MetalMaterial: -; InsulationMaterial: -; RatedCurrent: -; RecommendedWireGauge: -; FlameRetardantGrade: -; contact resistance: -; Belt length: -; specifications: -
footprint XT60PW-M
pins: 1 -, 2 +, 3, 4

## YNR5040-330M
designator L?
功率电感
footprint NR5040 (5.0mm*5.0mm*4.0mm(长*宽*高）)
pins: 1, 2

## YNR5040-330M_1
designator L?, comment YNR5040-330M
功率电感
footprint NR5040 (5.0mm*5.0mm*4.0mm(长*宽*高）)
pins: 1, 2

## ZH1.5-LS
designator JP?
Manufacturer: HCTL(华灿天禄); Manufacturer Part: HC-ZH-3PLT; Contributor: LCSC; Supplier: LCSC; Supplier Part: C2845434; JLCPCB Part Class: Extended Part; spicePre: C; spiceSymbolName: HC-ZH-3PLT
footprint ZH1.5
pins: 1, 2, 3, 4, 5

## ZH1.5_3P_LS
designator J?
footprint ZH1.5-LI-3P (长：6.0，宽：3.65，高：4.55  淘宝ID:黄晶宝石   店铺网址:https://shop463601444.taobao.com)
pins: 1, 2, 3

## ZH1.5_3P_LS_1
designator J?, comment ZH1.5_3P_LS
footprint ZH1.5-LI-3P (长：6.0，宽：3.65，高：4.55  淘宝ID:黄晶宝石   店铺网址:https://shop463601444.taobao.com)
pins: 1, 2, 3

## 固定孔
designator H?
footprint 固定孔

## 固定孔_1
designator H?, comment 固定孔
footprint 固定孔

## 铜柱孔
designator H?, comment 固定孔
footprint 铜柱孔
pins: 1 11

## 铜柱孔_1
designator H?, comment 固定孔
footprint 铜柱孔
pins: 1 11

## 铜柱孔_2
designator H?, comment 固定孔
footprint 铜柱孔
pins: 1 11